# EAGLE library part LT3464 (library PowerProducts)
LT-Spice library generated with : ltspice.ulp from: E:/Programme/LTC/LTspiceIV/lib/sym/PowerProducts/LT3466-1*.asy at 05.10.2012 11:14:24
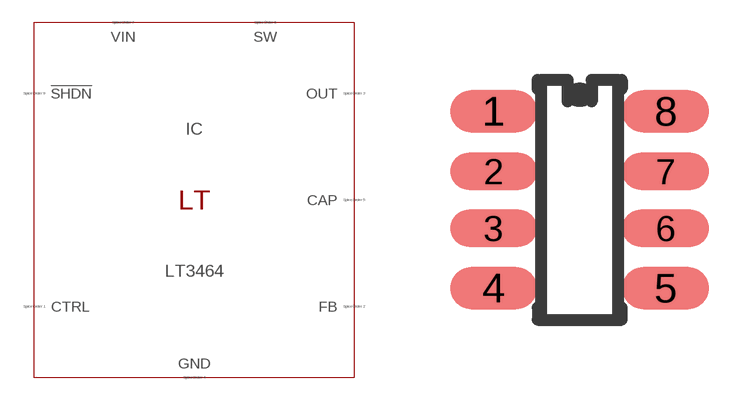
[diagram p36: symbol with the pads of SOT8(TS8); footprint SOT8(TS8)]

Designator prefix IC

## LT3464 (SPICEMODEL: LT1762.lib; SPICEPREFIX: X; VALUE2: LT1762)  [SOT8(TS8)]
1  CTRL  pas
2  FB  pas
3  OUT  pas
4  GND  pas
5  CAP  pas
6  SW  pas
7  VIN  pas
8  !SHDN  pas

## Footprint SOT8(TS8) (pad centres in mm)
Package generated from: SOT8(TS8).asc (!PADS-POWERPCB-V5.0-BASIC! DESIGN DATABASE ASCII FILE 1.0) with :import-pads-powerpcb-v5.ulp Version 1.0.1 at 04.10.2012 14:11:36
smd 2.175 x 1.05: 1 -2.152,2.212; 4 -2.152,-2.212; 5 2.152,-2.212; 8 2.152,2.212
smd 2.175 x 0.93: 2 -2.152,0.713; 3 -2.152,-0.713; 6 2.152,-0.713; 7 2.152,0.713